# Altium schematic symbol library PMV213SN.Schlib: 1 symbol
Pins are listed as number, name and electrical type; pins without a type are passive.

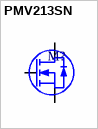
[diagram p0: symbol PMV213SN]

## PMV213SN
designator M?
100V 1.9A N-Channel
pins: 1 G, 2 S, 3 D